# Altium footprint library Auxillary_Supply_UCC28740.PcbLib: 20 footprints (part 1 of 2)
Each footprint in its own frame and in the unit in brackets; x right, y up, seen from the top. Pads: shape width x height; smd on the part's side, far side on the other; paste and mask are expansions set on the pad; w line width, h text height; cw(c..) or ccw(c..) is an arc to the next point about the centre after c.
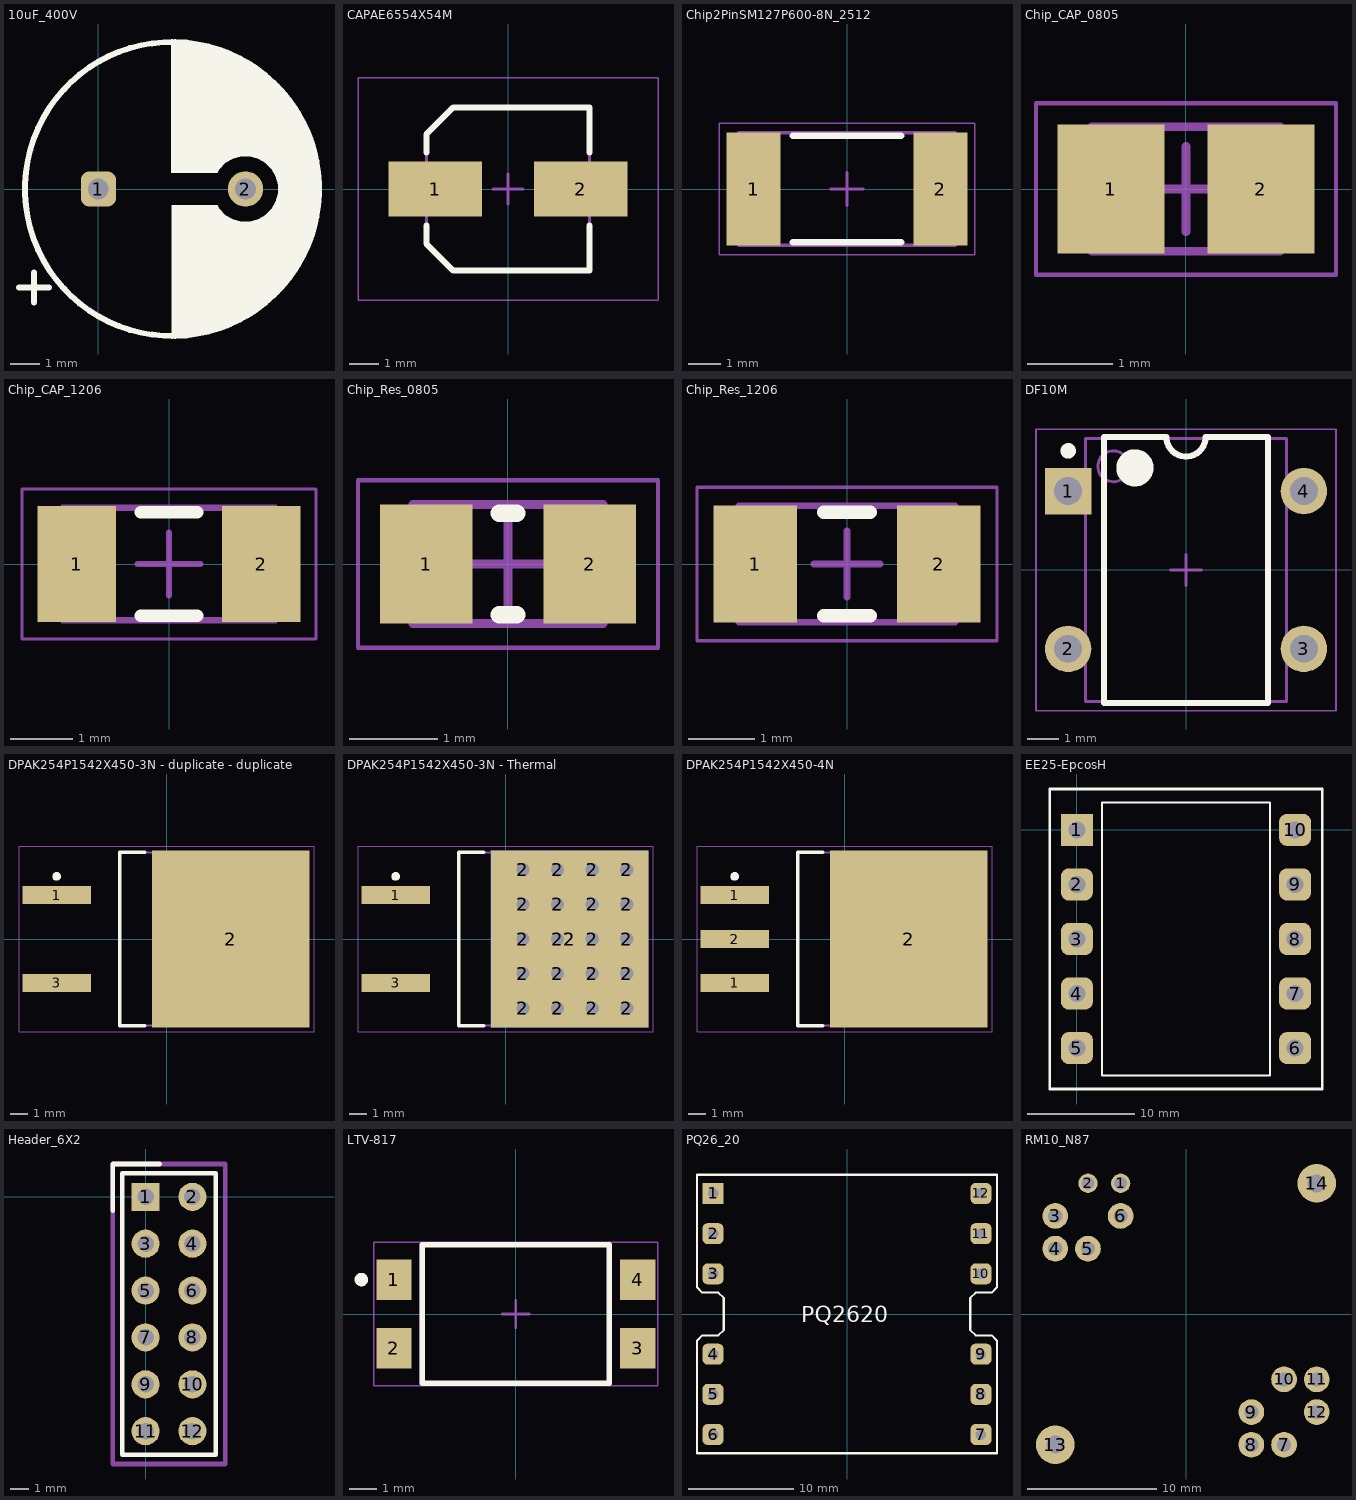
[diagram p0: the footprints below, top view; thin cyan lines are the x and y axes]

## 10uF_400V [mm]
pads (2):
  rrect50% 1.2x1.2 hole 0.7: 1(0,0)
  round 1.2 hole 0.7: 2(5,0)
Top Overlay:
  circle w0.2: c2.5,0 r5
  region: 2.5,-5 2.828,-5 3.478,-4.914 4.111,-4.745 4.716,-4.494 5.284,-4.166 5.804,-3.767 6.267,-3.304 6.666,-2.784 6.994,-2.216 7.245,-1.611 7.414,-0.978 7.5,-0.328 7.5,0.328 7.414,0.978 7.245,1.611 6.994,2.216 6.666,2.784 6.267,3.304 5.804,3.767 5.284,4.166 4.716,4.494 4.111,4.745 3.478,4.914 2.828,5 2.5,5 2.477,4.977 2.477,0.559 4.033,0.559 4.114,0.68 4.32,0.886 4.572,1.032 4.854,1.108 5.146,1.108 5.428,1.032 5.68,0.886 5.886,0.68 6.032,0.428 6.108,0.146 6.108,-0.146 6.032,-0.428 5.886,-0.68 5.68,-0.886 5.428,-1.032 5.146,-1.108 4.854,-1.108 4.572,-1.032 4.32,-0.886 4.114,-0.68 4.033,-0.559 2.5,-0.559
  lines w0.2: -2.702,-3.35 -1.686,-3.35 ; -2.194,-3.858 -2.194,-2.842 ; 2.5,-5 ccw(c2.5,0) 2.5,5
Mechanical 13:
  text "'.Designator'" at -6.328,6.764 h1.52
3D body "CP_Radial_D10.0mm_P5.00mm.step": height 10.5, standoff -1.5, extent -2.5,-4.999 7.5,5

## CAPAE6554X54M [mm] "Aluminum Electrolytic Capacitor, Body 5.40x5.40x5.40mm, IPC Low Density"
height 5.4
pads (2):
  rect 3.15x1.85 smd: 1(-2.45,0) 2(2.45,0)
Top Overlay:
  lines w0.2: -2.75,-1.225 -2.75,-1.837 -1.837,-2.75 2.75,-2.75 2.75,-1.225 ; -2.75,1.225 -2.75,1.837 -1.837,2.75 2.75,2.75 2.75,1.225
Mechanical 13:
  lines w0.1: -2.75,-1.837 -2.75,1.837 -1.837,2.75 2.75,2.75 2.75,-2.75 -1.837,-2.75 -2.75,-1.837
Mechanical 15:
  lines w0.05: -5.05,-3.75 5.05,-3.75 5.05,3.75 -5.05,3.75 -5.05,-3.75
  lines w0.1: -0.5,0 0.5,0 ; 0,-0.5 0,0.5
3D body "CAPAE6554X54M.step": height 5.4, standoff 0, extent -3.25,-2.75 3.25,2.75

## Chip2PinSM127P600-8N_2512 [mm]
height 0.8
pads (2):
  rect 1.65x3.45 smd: 1(-2.85,0) 2(2.85,0)
Top Overlay:
  lines w0.2: -1.65,-1.625 1.65,-1.625 ; -1.65,1.625 1.65,1.625
Mechanical 13:
  lines w0.1: -3.3,-1.715 3.3,-1.715 3.3,1.715 -3.3,1.715 -3.3,-1.715
Mechanical 15:
  lines w0.05: -3.9,-2 3.9,-2 3.9,2 -3.9,2 -3.9,-2
  lines w0.1: -0.5,0 0.5,0 ; 0,-0.5 0,0.5
3D body "Chip2PinSM127P600-8N_2512.step": height 0.8, standoff 0, extent -3.3,-1.715 3.3,1.715

## Chip_CAP_0805 [mm]
height 1.2
pads (2):
  rect 1.25x1.5 smd: 1(-0.875,0) 2(0.875,0)
Mechanical 13:
  lines w0.1: -1.1,-0.725 -1.1,0.725 1.1,0.725 1.1,-0.725 -1.1,-0.725
  text "'.Designator'" at -4.642,1.732 h1.52
Mechanical 15:
  lines w0.05: -1.75,-1 -1.75,1 1.75,1 1.75,-1 -1.75,-1
  lines w0.1: -0.5,0 0.5,0 ; 0,-0.5 0,0.5
3D body "Chip_CAP_0805.step": height 1.2, standoff 0, extent -1.1,-0.725 1.1,0.725

## Chip_CAP_1206 [mm]
height 1.4
pads (2):
  rect 1.25x1.85 smd: 1(-1.475,0) 2(1.475,0)
Top Overlay:
  lines w0.2: -0.45,-0.825 0.45,-0.825 ; -0.45,0.825 0.45,0.825
Mechanical 13:
  lines w0.1: -1.7,-0.9 -1.7,0.9 1.7,0.9 1.7,-0.9 -1.7,-0.9
  text "'.Designator'" at -6.166,2.24 h1.52
Mechanical 15:
  lines w0.05: -2.35,-1.2 -2.35,1.2 2.35,1.2 2.35,-1.2 -2.35,-1.2
  lines w0.1: -0.5,0 0.5,0 ; 0,-0.5 0,0.5
3D body "Chip_CAP_1206.step": height 1.4, standoff 0, extent -1.7,-0.9 1.7,0.9

## Chip_Res_0805 [mm]
height 0.5
pads (2):
  rect 1.05x1.35 smd: 1(-0.925,0) 2(0.925,0)
Top Overlay:
  lines w0.2: -0.1,-0.575 0.1,-0.575 ; -0.1,0.575 0.1,0.575
Mechanical 13:
  lines w0.1: -1.075,-0.675 1.075,-0.675 1.075,0.675 -1.075,0.675 -1.075,-0.675
  text "'.Designator'" at -5.404,-2.84 h1.52
Mechanical 15:
  lines w0.05: -1.7,-0.95 1.7,-0.95 1.7,0.95 -1.7,0.95 -1.7,-0.95
  lines w0.1: -0.5,0 0.5,0 ; 0,-0.5 0,0.5
3D body "Chip_Res_0805.step": height 0.5, standoff 0, extent -1.075,-0.675 1.075,0.675

## Chip_Res_1206 [mm]
height 0.55
pads (2):
  rect 1.25x1.75 smd: 1(-1.375,0) 2(1.375,0)
Top Overlay:
  lines w0.2: -0.35,-0.775 0.35,-0.775 ; -0.35,0.775 0.35,0.775
Mechanical 13:
  lines w0.1: -1.625,-0.875 1.625,-0.875 1.625,0.875 -1.625,0.875 -1.625,-0.875
  text "'.Designator'" at -6.604,-3.048 h1.52
Mechanical 15:
  lines w0.05: -2.25,-1.15 2.25,-1.15 2.25,1.15 -2.25,1.15 -2.25,-1.15
  lines w0.1: -0.5,0 0.5,0 ; 0,-0.5 0,0.5
3D body "Chip_Res_1206.step": height 0.55, standoff 0, extent -1.625,-0.875 1.625,0.875

## DF10M [mm]
pads (4):
  rect 1.5x1.5 hole 0.9: 1(-3.81,2.55)
  round 1.5 hole 0.9: 2(-3.81,-2.55) 3(3.81,-2.55) 4(3.81,2.55)
Top Overlay:
  circle w0.6: c-1.65,3.3 r0.3
  circle w0.25: c-3.81,3.85 r0.125
  lines w0.2: -2.65,-4.3 2.65,-4.3 2.65,4.3 0.635,4.3 cw(c0,4.3) -0.635,4.3 -2.65,4.3 -2.65,-4.3
Mechanical 13:
  circle w0.1: c-2.35,3.35 r0.5
  lines w0.1: -3.25,-4.25 3.25,-4.25 3.25,4.25 -3.25,4.25 -3.25,-4.25
Mechanical 15:
  lines w0.05: -4.85,-4.55 4.85,-4.55 4.85,4.55 -4.85,4.55 -4.85,-4.55
  lines w0.1: -0.5,0 0.5,0 ; 0,-0.5 0,0.5
3D body "Diode_Bridge_DIP-4_W7.62mm_P5.08mm.step": height 3.5, standoff -3, extent -4.01,-4.318 4.01,4.182

## DPAK254P1542X450-3N - duplicate - duplicate [mm] "D2-PAK, 3-Pads, Body 7.60x8.36mm (max), IPC Medium Density"
height 4.5
pads (3):
  rect 3.95x1.05 smd: 1(-6.35,2.54) 3(-6.35,-2.54)
  rect 9.1x10.2 smd: 2(3.7,0)
Top Overlay:
  circle w0.25: c-6.35,3.615 r0.125
  lines w0.2: -1.25,-5 -2.7,-5 -2.7,5 -1.25,5
Mechanical 13:
  lines w0.1: -2.7,-5 -2.7,5 6.3,5 6.3,-5 -2.7,-5
Mechanical 15:
  lines w0.05: -8.525,-5.35 -8.525,5.35 8.525,5.35 8.525,-5.35 -8.525,-5.35
  lines w0.1: -0.5,0 0.5,0 ; 0,-0.5 0,0.5
3D body "TO-263-2.step": height 4.67, standoff 0.25, extent -7.5,-5 7.5,5

## DPAK254P1542X450-3N - Thermal [mil] "D2-PAK, 3-Pads, Body 7.60x8.36mm (max), IPC Medium Density"
height 177.17
pads (24):
  rect 155.51x41.34 smd: 1(-250,100) 3(-250,-100)
  round 60 hole 30: 2(39.37,-157.48) 2(39.37,-78.74) 2(39.37,0) 2(39.37,78.74) 2(39.37,157.48) 2(118.11,-157.48) 2(118.11,-78.74) 2(118.11,0) 2(118.11,78.74) 2(118.11,157.48) 2(196.85,-157.48) 2(196.85,-78.74) 2(196.85,0) 2(196.85,78.74) 2(196.85,157.48) 2(275.59,-157.48) 2(275.59,-78.74) 2(275.59,0) 2(275.59,78.74) 2(275.59,157.48)
  rect 358.27x401.57 smd: 2(145.67,0)
  rect 358.27x401.57 smd far side: 2(145.67,0)
Top Overlay:
  circle w9.84: c-250,142.32 r4.92
  lines w7.87: -49.21,-196.85 -106.3,-196.85 -106.3,196.85 -49.21,196.85
Mechanical 13:
  lines w3.94: -106.3,-196.85 -106.3,196.85 248.03,196.85 248.03,-196.85 -106.3,-196.85
Mechanical 15:
  lines w1.97: -335.63,-210.63 -335.63,210.63 335.63,210.63 335.63,-210.63 -335.63,-210.63
  lines w3.94: -19.68,0 19.68,0 ; 0,-19.68 0,19.68
3D body "TO-263-2.step": height 183.86, standoff 9.84, extent -295.27,-196.84 295.28,196.86

## DPAK254P1542X450-4N [mm] "D2-PAK, 3-Pads, Body 7.60x8.36mm (max), IPC Medium Density"
height 4.5
pads (4):
  rect 3.95x1.05 smd: 1(-6.35,-2.54) 1(-6.35,2.54) 2(-6.35,0)
  rect 9.1x10.2 smd: 2(3.7,0)
Top Overlay:
  circle w0.25: c-6.35,3.615 r0.125
  lines w0.2: -1.25,-5 -2.7,-5 -2.7,5 -1.25,5
Mechanical 13:
  lines w0.1: -2.7,-5 -2.7,5 6.3,5 6.3,-5 -2.7,-5
Mechanical 15:
  lines w0.05: -8.525,-5.35 -8.525,5.35 8.525,5.35 8.525,-5.35 -8.525,-5.35
  lines w0.1: -0.5,0 0.5,0 ; 0,-0.5 0,0.5
3D body "TO-263-2.step": height 4.42, standoff 0, extent -7.5,-5 7.5,5

## EE25-EpcosH [mm]
pads (10):
  rect 3x3 hole 1.6: 1(0,0)
  rrect50% 3x3 hole 1.6: 2(0,-5.08) 3(0,-10.16) 4(0,-15.24) 5(0,-20.32) 6(20.32,-20.32) 7(20.32,-15.24) 8(20.32,-10.16) 9(20.32,-5.08) 10(20.32,0)
Top Overlay:
  lines w0.2: 2.335,-22.86 2.335,2.54 11.43,2.54 17.985,2.54 17.985,-22.86 2.335,-22.86
  lines w0.254: -2.54,-24.13 22.86,-24.13 22.86,3.81 -2.54,3.81 -2.54,2.54 -2.54,-24.13
Mechanical 1:
  text "'.Designator'" at 10.033,-18.034 h1.52
3D body "E25-13-7-and-B66208B(horizontal).STEP": height 20.9, standoff -3.1, extent -3.9,-23.91 24.1,3.59

## Header_6X2 [mil]
pads (12):
  rect 60x60 hole 35.43: 1(0,0)
  round 60 hole 35.43: 2(100,0) 3(0,-100) 4(100,-100) 5(0,-200) 6(100,-200) 7(0,-300) 8(100,-300) 9(0,-400) 10(100,-400) 11(0,-500) 12(100,-500)
Top Overlay:
  lines w10: -70,-30 -70,70 30,70 ; -50,-550 -50,50 150,50 150,-550 -30,-550 -50,-550
Mechanical 13:
  lines w10: -70,-570 -70,70 170,70 170,-570 -70,-570
  text "'.Designator'" at -129.99,-600 h60
3D body "PinHeader_2x06_P2.54mm_Horizontal.step": height 200, standoff -118.11, extent -12.59,-550 495.28,50

## LTV-817 [mm]
pads (4):
  rect 1.3x1.5 smd: 1(-4.5,1.27) 2(-4.5,-1.27) 3(4.5,-1.27) 4(4.5,1.27)
Top Overlay:
  circle w0.25: c-5.7,1.27 r0.125
  lines w0.2: -3.45,-2.55 -3.45,2.55 3.45,2.55 3.45,-2.55 -3.45,-2.55
Mechanical 13:
  lines w0.1: -3.5,-2.55 -3.5,2.55 3.5,2.55 3.5,-2.55 -3.5,-2.55
Mechanical 15:
  lines w0.05: -5.25,-2.65 -5.25,2.65 5.25,2.65 5.25,-2.65 -5.25,-2.65
  lines w0.1: -0.5,0 0.5,0 ; 0,-0.5 0,0.5
3D body "DIP-4_W7.62mm_SMDSocket.step": height 3.68, standoff 0, extent -4.476,-2.6 4.476,2.6

## PQ26_20 [mm]
pads (12):
  rect 2x2 hole 1: 1(-12.7,11.43)
  rrect50% 2x2 hole 1: 2(-12.7,7.62) 3(-12.7,3.81) 4(-12.7,-3.81) 5(-12.7,-7.62) 6(-12.7,-11.43) 7(12.7,-11.43) 8(12.7,-7.62) 9(12.7,-3.81) 10(12.7,3.81) 11(12.7,7.62) 12(12.7,11.43)
Top Overlay:
  lines w0.2: -13.208,-2.032 -12.192,-2.032 ; 13.208,-2.032 12.192,-2.032 ; -12.192,-2.032 -13.716,-2.032 -14.224,-2.54 -14.224,-13.208 14.224,-13.208 14.224,-2.54 13.716,-2.032 12.192,-2.032 ; -12.192,-2.032 -11.684,-1.524 -11.684,1.016 -11.684,1.524 -12.192,2.032 -13.716,2.032 -14.224,2.54 -14.224,13.208 14.224,13.208 14.224,2.54 13.716,2.032 12.192,2.032 11.684,1.524 11.684,1.016 11.684,-1.524 12.192,-2.032
  text "PQ2620" at -4.318,-0.762 h1.52
3D body "PQ26-20-K-12P-P-2601-1_zlozenie.STEP": height 22.65, standoff -1.3, extent -14.75,-13.65 14.75,13.65

## RM10_N87 [mm]
pads (14):
  round 1.5 hole 1: 1(-5.08,10.16) 2(-7.62,10.16)
  round 2 hole 1.1: 3(-10.16,7.62) 4(-10.16,5.08) 5(-7.62,5.08) 6(-5.08,7.62) 7(7.62,-10.16) 8(5.08,-10.16) 9(5.08,-7.62) 10(7.62,-5.08) 11(10.16,-5.08) 12(10.16,-7.62)
  round 3 hole 1.4: 13(-10.16,-10.16) 14(10.16,10.16)
3D body "RM10.STEP": height 18.71, standoff -2.7, extent -12.957,-12.915 12.865,12.906